# Altium schematic symbol library DBLib.SchLib: 36 symbols
Pins are listed as number, name and electrical type; pins without a type are passive.

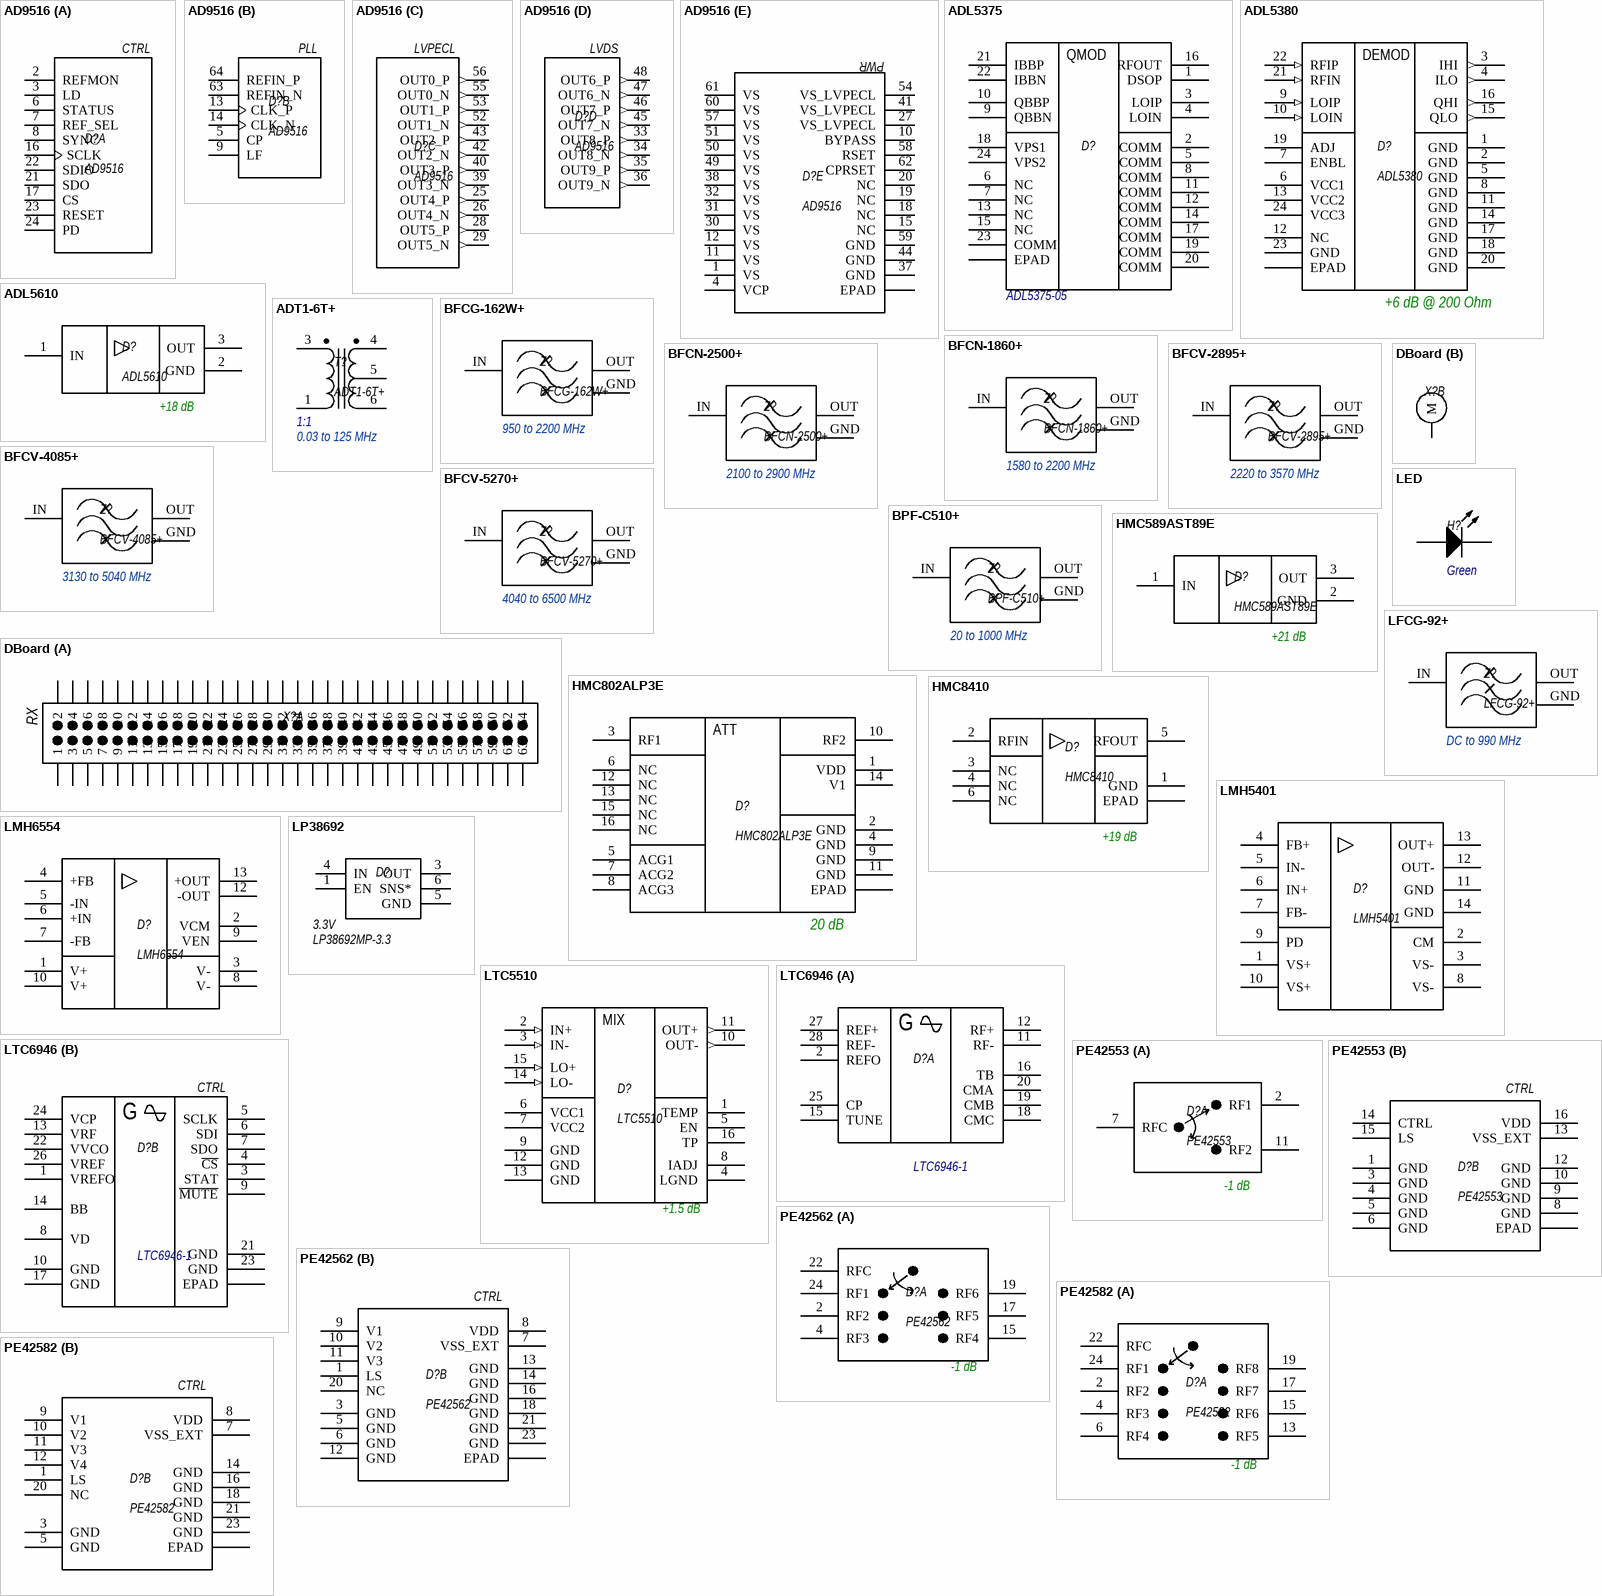
[diagram p0: symbols AD9516 to PE42582]

## AD9516
designator D?
14-Output Clock Generator; Manufacturer: Analog Devices; Input Frequency: 0 to 2.4 GHz; Input Sensitivity: 150 mV p-p; Name: AD9516-4; Output Frequency, Maximum: 2950 MHz; Voltage: 2.5 V to 3.3 V; P/N: AD9516-4BCPZ; Package: LFSCSP-64; Temperature Range: −40°C to +85°C; Type: 14-Output Clock Generator; Supplier 1: Digi-Key; Supplier Part Number 1: AD9516-4BCPZ-ND
footprint LFCSP-64
part A pins: 2 REFMON, 3 LD, 6 STATUS, 7 REF_SEL, 8 SYNC, 16 SCLK, 17 CS, 21 SDO, 22 SDIO, 23 RESET, 24 PD
part B pins: 5 CP, 9 LF, 13 CLK_P, 14 CLK_N, 63 REFIN_N, 64 REFIN_P
part C pins: 25 OUT4_P (out), 26 OUT4_N (out), 28 OUT5_P (out), 29 OUT5_N (out), 39 OUT3_N (out), 40 OUT3_P (out), 42 OUT2_N (out), 43 OUT2_P (out), 52 OUT1_N (out), 53 OUT1_P (out), 55 OUT0_N (out), 56 OUT0_P (out)
part D pins: 33 OUT8_P (out), 34 OUT8_N (out), 35 OUT9_P (out), 36 OUT9_N (out), 45 OUT7_N (out), 46 OUT7_P (out), 47 OUT6_N (out), 48 OUT6_P (out)
part E pins: 0 EPAD (power), 1 VS (power), 4 VCP (power), 10 BYPASS, 11 VS (power), 12 VS (power), 15 NC, 18 NC, 19 NC, 20 NC, 27 VS_LVPECL (power), 30 VS (power), 31 VS (power), 32 VS (power), 37 GND (power), 38 VS (power), 41 VS_LVPECL (power), 44 GND (power), 49 VS (power), 50 VS (power), 51 VS (power), 54 VS_LVPECL (power), 57 VS (power), 58 RSET, 59 GND (power), 60 VS (power), 61 VS (power), 62 CPRSET
part A text: CTRL
part B text: PLL
part C text: LVPECL
part D text: LVDS
part E text: PWR

## ADL5375
designator D?  Name: ADL5375-05  (hidden comment: ADL5375)
Broadband Quadrature Modulator; Manufacturer: Analog Devices; Voltage: 4.75 V to 5.25 V; P/N: ADL5375-05SCPZEPR7; Package: 24-lead LFCSP_VQ package; Temperature Range: –40°C to 125°C; Type: Broadband Quadrature Modulator; Supplier 1: Digi-Key; Supplier Part Number 1: ADL5375-05ACPZ-R7CT-ND
footprint LFCSP-24 (QFN, 24-Leads, Body 4,00x4,00mm, Pitch 0,50mm, Thermal Pad 2,50x2,50mm, IPC Medium Density)
pins: 1 DSOP, 2 COMM, 3 LOIP, 4 LOIN, 5 COMM, 6 NC, 7 NC, 8 COMM, 9 QBBN, 10 QBBP, 11 COMM, 12 COMM, 13 NC, 14 COMM, 15 NC, 16 RFOUT, 17 COMM, 18 VPS1, 19 COMM, 20 COMM, 21 IBBP, 22 IBBN, 23 COMM, 24 VPS2, 25 EPAD
text: QMOD

## ADL5380
designator D?
Quadrature Demodulator; Manufacturer: Analog Devices; Voltage: 5V; Type: Broadband quadrature I-Q demodulator; P/N: ADL5380ACPZ-R7; Name: ADL5380; Package: 24-Lead LFCSP_WQ; Temperature Range: –40°C to 125°C; Supplier 1: Digi-Key; Supplier Part Number 1: ADL5380ACPZ-R7CT-ND
footprint LFCSP-24 (QFN, 24-Leads, Body 4,00x4,00mm, Pitch 0,50mm, Thermal Pad 2,50x2,50mm, IPC Medium Density)
pins: 1 GND, 2 GND, 3 IHI (out), 4 ILO (out), 5 GND, 6 VCC1, 7 ENBL, 8 GND, 9 LOIP (in), 10 LOIN (in), 11 GND, 12 NC, 13 VCC2, 14 GND, 15 QLO (out), 16 QHI (out), 17 GND, 18 GND, 19 ADJ, 20 GND, 21 RFIN (in), 22 RFIP (in), 23 GND, 24 VCC3, 25 EPAD
text: DEMOD; +6 dB @ 200 Ohm

## ADL5610
designator D?
RF/IF Gain Block; Manufacturer: Analog Devices; P/N: ADL5610ARKZ-R7; Name: ADL5610; Package: SOT89; Type: RF/IF Gain Block; Supplier 1: Digi-Key; Supplier Part Number 1: ADL5610ARKZ-R7CT-ND
footprint SOT89 (SOT89, 3-Leads, Body 4,49x2,44mm, Pitch 1,50mm, Lead Span 4,0mm, IPC Medium Density)
pins: 1 IN, 2 GND, 3 OUT
text: +18 dB

## ADT1-6T+
designator T?  Frequency: 0.03 to 125 MHz  Ratio: 1:1
RF Transformer; Manufacturer: Mini-Circuits; Name: ADT1-6T+; P/N: ADT1-6T+; Type: RF Transformer; Package: CD637
footprint CD637 (RF Transformer)
pins: 1, 3, 4, 5, 6

## BFCG-162W+
designator Z?  Frequency: 950 to 2200 MHz
Bandpass Filter; Manufacturer: Mini-Circuits; Name: BFCG-162W+; P/N: BFCG-162W+; Type: Bandpass Filter; Package: GE0805C-3
footprint GE0805C-3 (Bandpass Filter)
pins: GND, IN, OUT

## BFCN-1860+
designator Z?  Frequency: 1580 to 2200 MHz
Bandpass Filter; Manufacturer: Mini-Circuits; Name: BFCN-1860+; P/N: BFCN-1860+; Type: Bandpass Filter; Package: FV1206-4
footprint FV1206-4 (Bandpass Filter)
pins: GND, IN, OUT

## BFCN-2500+
designator Z?  Frequency: 2100 to 2900 MHz
Bandpass Filter; Manufacturer: Mini-Circuits; Name: BFCN-2500+; P/N: BFCN-2500+; Type: Bandpass Filter; Package: FV1206-4
footprint FV1206-4 (Bandpass Filter)
pins: GND, IN, OUT

## BFCV-2895+
designator Z?  Frequency: 2220 to 3570 MHz
Bandpass Filter; Manufacturer: Mini-Circuits; Name: BFCV-2895+; P/N: BFCV-2895+; Type: Bandpass Filter; Package: JV1210C
footprint JV1210C (Bandpass Filter)
pins: GND, IN, OUT

## BFCV-4085+
designator Z?  Frequency: 3130 to 5040 MHz
Bandpass Filter; Manufacturer: Mini-Circuits; Name: BFCV-4085+; P/N: BFCV-4085+; Type: Bandpass Filter; Package: JV1210C
footprint JV1210C (Bandpass Filter)
pins: GND, IN, OUT

## BFCV-5270+
designator Z?  Frequency: 4040 to 6500 MHz
Bandpass Filter; Manufacturer: Mini-Circuits; Name: BFCV-5270+; P/N: BFCV-5270+; Type: Bandpass Filter; Package: JV1210C
footprint JV1210C (Bandpass Filter)
pins: GND, IN, OUT

## BPF-C510+
designator Z?  Frequency: 20 to 1000 MHz
Wide band filter; Manufacturer: Mini-Circuits; Name: BPF-C510+; P/N: BPF-C510+; Type: Bandpass Filter; Package: HU1186
footprint BPF-C510+ (Bandpass Filter)
pins: GND, IN, OUT

## DBoard
designator X?  (value not drawn)
USRP DBoard; Manufacturer: Molex; Name: 1.00mm Pitch Mezzanine 714390164; P/N: 714390164; Supplier 1: Digi-Key; Supplier Part Number 1: WM17201-ND
footprint DBoard (USRP DBoard)
part A pins: 65 1, 66 2, 67 3, 68 4, 69 5, 70 6, 71 7, 72 8, 73 9, 74 10, 75 11, 76 12, 77 13, 78 14, 79 15, 80 16, 81 17, 82 18, 83 19, 84 20, 85 21, 86 22, 87 23, 88 24, 89 25, 90 26, 91 27, 92 28, 93 29, 94 30, 95 31, 96 32, 97 33, 98 34, 99 35, 100 36, 101 37, 102 38, 103 39, 104 40, 105 41, 106 42, 107 43, 108 44, 109 45, 110 46, 111 47, 112 48, 113 49, 114 50, 115 51, 116 52, 117 53, 118 54, 119 55, 120 56, 121 57, 122 58, 123 59, 124 60, 125 61, 126 62, 127 63, 128 64
part B pins: 0 M
part A text: RX

## HMC589AST89E
designator D?
InGaP HBT GAIN BLOCK; Manufacturer: Analog Devices; Name: HMC589AST89E; Package: SOT89E; Type: InGaP HBT GAIN BLOCK; P/N: HMC589AST89E; Supplier 1: Digi-Key; Supplier Part Number 1: 1127-3329-1-ND
footprint SOT89 (SOT89, 3-Leads, Body 4,49x2,44mm, Pitch 1,50mm, Lead Span 4,0mm, IPC Medium Density)
pins: 1 IN, 2 GND, 3 OUT
text: +21 dB

## HMC802ALP3E
designator D?
POSITIVE CONTROL ATTENUATOR; Manufacturer: Analog Devices; Type: 20 dB GaAs MMIC 1-BIT DIGITAL; Name: HMC802ALP3E; Package: 16 Lead 3x3mm SMT; P/N: HMC802ALP3E; Supplier 1: Digi-Key; Supplier Part Number 1: 1127-3186-ND
footprint QFN-16 v2 (QFN, 16-Leads, Body 3,00x3,00mm, Pitch 0,50mm, Thermal Pad 1,73x1,73mm, IPC Medium Density)
pins: 1 VDD, 2 GND, 3 RF1, 4 GND, 5 ACG1, 6 NC, 7 ACG2, 8 ACG3, 9 GND, 10 RF2, 11 GND, 12 NC, 13 NC, 14 V1, 15 NC, 16 NC, 17 EPAD
text: ATT; 20 dB

## HMC8410
designator D?
Low Noise Amplifier; Manufacturer: Analog Devices; Type: LNA; P/N: HMC8410LP2FE; Name: HMC8410; Package: LFSCP 2x2 mm; Supplier 1: Digi-Key; Supplier Part Number 1: 1127-3353-ND
footprint LFCSP 2x2 mm (LFCSP, 6-Leads, Body 2,00x2,00mm, Pitch 0,65mm, Thermal Pad 1,60x0,99mm, IPC Medium Density)
pins: 1 GND, 2 RFIN, 3 NC, 4 NC, 5 RFOUT, 6 NC, 7 EPAD
text: +19 dB

## LED
designator H?  Color: Green  (hidden comment: LED)
CHIP LED LAMP; Manufacturer: Kingbright; Name: APHCM2012; P/N: APHCM2012CGCK-F01; Package: 2.0 x 1.25 mm SMD; Type: CHIP LED LAMP; Supplier 1: Digi-Key; Supplier Part Number 1: 754-1094-1-ND
footprint LED
pins: 1 K, 2 A

## LFCG-92+
designator Z?  Frequency: DC to 990 MHz
Low Pass Filter; Manufacturer: Mini-Circuits; Name: LFCG-92+; P/N: LFCG-92+; Type: Low Pass Filter; Package: GE0805C-2
footprint GE0805C-2 (Low Pass Filter)
pins: GND, IN, OUT

## LMH5401
designator D?
Fully Differential Amplifier; Manufacturer: Texas Instruments; Voltage: 3.15 V ~ 5.25 V; Type: The LMH5401 device is a very high-performance,  differential amplifier optimized for radio frequency  (RF); P/N: LMH5401IRMST; Name: LMH5401; Package: 14-UQFN (2.5x2.5); Temperature Range: –40°C to 125°C; Supplier 1: Digi-Key; Supplier Part Number 1: 296-38513-1-ND
footprint UQFN-14 (LMH5401)
pins: 1 VS+, 2 CM, 3 VS-, 4 FB+, 5 IN-, 6 IN+, 7 FB-, 8 VS-, 9 PD, 10 VS+, 11 GND, 12 OUT-, 13 OUT+, 14 GND

## LMH6554
designator D?
Fully Differential Amplifier; Manufacturer: Texas Instruments; Voltage: 5V; Type: The LMH6554 device is a high-performance fully differential amplifier; P/N: LMH6554LEE/NOPB; Name: LMH6554; Package: 14-lead UQFN; Temperature Range: –40°C to 125°C; Supplier 1: Digi-Key; Supplier Part Number 1: LMH6554LEE/NOPBCT-ND
footprint UQFN-14_2 (LMH6554)
pins: 1 V+, 2 VCM, 3 V-, 4 +FB, 5 -IN, 6 +IN, 7 -FB, 8 V-, 9 VEN, 10 V+, 12 -OUT, 13 +OUT

## LP38692
designator D?  Name: LP38692MP-3.3  Voltage: 3.3V  (hidden comment: LP38692)
Linear Regulator; Manufacturer: Texas Instruments; P/N: LP38692MP-3.3/NOPB; Supplier 1: Digi-Key; Supplier Part Number 1: LP38692MP-3.3/NOPBCT-ND; Type: Linear Regulator; Package: SOT-223-5
footprint SOT-223-5
pins: 1 EN, 3 OUT, 4 IN, 5 GND, 6 SNS*

## LTC5510
designator D?
Differential Amplifier/ADC   Driver; Manufacturer: Linear Technology; Voltage: 5V or 3.3V; Type: High Linearity Active Mixer; P/N: LTC5510IUF#PBF; Name: LTC5510; Package: 16-Lead (4mm × 4mm) QFN; Temperature Range: –40°C to 105°C; Supplier 1: Digi-Key; Supplier Part Number 1: LTC5510IUF#PBF-ND
footprint PQFN-16 (PQFN, 16-Leads, Body 4,00x4,00mm, Pitch 0,65mm, Thermal Pad 2,15x2,15mm, IPC Medium Density)
pins: 1 TEMP, 2 IN+ (in), 3 IN- (in), 4 LGND, 5 EN, 6 VCC1, 7 VCC2, 8 IADJ, 9 GND, 10 OUT- (out), 11 OUT+ (out), 12 GND, 13 GND, 14 LO- (in), 15 LO+ (in), 16 TP
text: MIX; +1.5 dB

## LTC6946
designator D?  Name: LTC6946-1  (hidden comment: LTC6946)
The LTC®6946 is a high performance, low noise, 6.39GHz  phase-locked loop (PLL); Manufacturer: Linear Technology; Voltage: 3.15 V ~ 5.25 V; Type: Clock/Frequency Synthesizer (RF/IF), Integer N; P/N: LTC6946IUFD-1#PBF; Package: 28-QFN (4x5); Temperature Range: -40°C ~ 105°C; Supplier 1: Digi-Key; Supplier Part Number 1: LTC6946IUFD-1#PBF-ND
footprint QFN-28 (QFN, 28-Leads, Body 4,00x5,00mm, Pitch 0,50mm, Thermal Pad 2,50x3,50mm, IPC Medium Density)
part A pins: 2 REFO, 11 RF-, 12 RF+, 15 TUNE, 16 TB, 18 CMC, 19 CMB, 20 CMA, 25 CP, 27 REF+, 28 REF-
part B pins: 1 VREFO, 3 STAT, 4 ~{CS}, 5 SCLK, 6 SDI, 7 SDO, 8 VD, 9 ~{MUTE}, 10 GND, 13 VRF, 14 BB, 17 GND, 21 GND, 22 VVCO, 23 GND, 24 VCP, 26 VREF, 29 EPAD
part A text: G
part B text: CTRL; G

## PE42553
designator D?
HaRPTM technology-enhanced absorptive SPDT; Manufacturer: Peregrine Technical Solutions; P/N: PE42553A-Z; Type: SPDT RF Switch; Name: PE42553; Package: 16-lead 3 × 3 mm QFN; Supplier 1: Digi-Key; Supplier Part Number 1: 1046-1137-1-ND
footprint QFN-16 (QFN, 16-Leads, Body 3,00x3,00mm, Pitch 0,50mm, Thermal Pad 1,70x1,70mm, IPC Medium Density)
part A pins: 2 RF1, 7 RFC, 11 RF2
part B pins: 1 GND, 3 GND, 4 GND, 5 GND, 6 GND, 8 GND, 9 GND, 10 GND, 12 GND, 13 VSS_EXT, 14 CTRL, 15 LS, 16 VDD, 17 EPAD
part A text: -1 dB

## PE42562
designator D?
The PE42582 is a HaRP™ technology-enhanced absorptive SP6T RF switch; Manufacturer: Peregrine Technical Solutions; P/N: PE42562A-X; Name: PE42562; Package: 24-lead 4 × 4 × 0.85 mm QFN; Type: Absorptive SP6T RF switch
footprint QFN-24 (QFN, 24-Leads, Body 4,00x4,00mm, Pitch 0,50mm, Thermal Pad 2,70x2,70mm, IPC Medium Density)
part A pins: 2 RF2, 4 RF3, 15 RF4, 17 RF5, 19 RF6, 22 RFC, 24 RF1
part B pins: 1 LS, 3 GND, 5 GND, 6 GND, 7 VSS_EXT, 8 VDD, 9 V1, 10 V2, 11 V3, 12 GND, 13 GND, 14 GND, 16 GND, 18 GND, 20 NC, 21 GND, 23 GND, 25 EPAD
part A text: -1 dB
part B text: CTRL

## PE42582
designator D?
The PE42582 is a HaRP™ technology-enhanced absorptive SP8T RF switch; Manufacturer: Peregrine Technical Solutions; P/N: PE42582A-X; Name: PE42582; Package: 24-lead 4 × 4 × 0.85 mm QFN; Type: Absorptive SP8T RF switch
footprint QFN-24 (QFN, 24-Leads, Body 4,00x4,00mm, Pitch 0,50mm, Thermal Pad 2,70x2,70mm, IPC Medium Density)
part A pins: 2 RF2, 4 RF3, 6 RF4, 13 RF5, 15 RF6, 17 RF7, 19 RF8, 22 RFC, 24 RF1
part B pins: 1 LS, 3 GND, 5 GND, 7 VSS_EXT, 8 VDD, 9 V1, 10 V2, 11 V3, 12 V4, 14 GND, 16 GND, 18 GND, 20 NC, 21 GND, 23 GND, 25 EPAD
part A text: -1 dB
part B text: CTRL

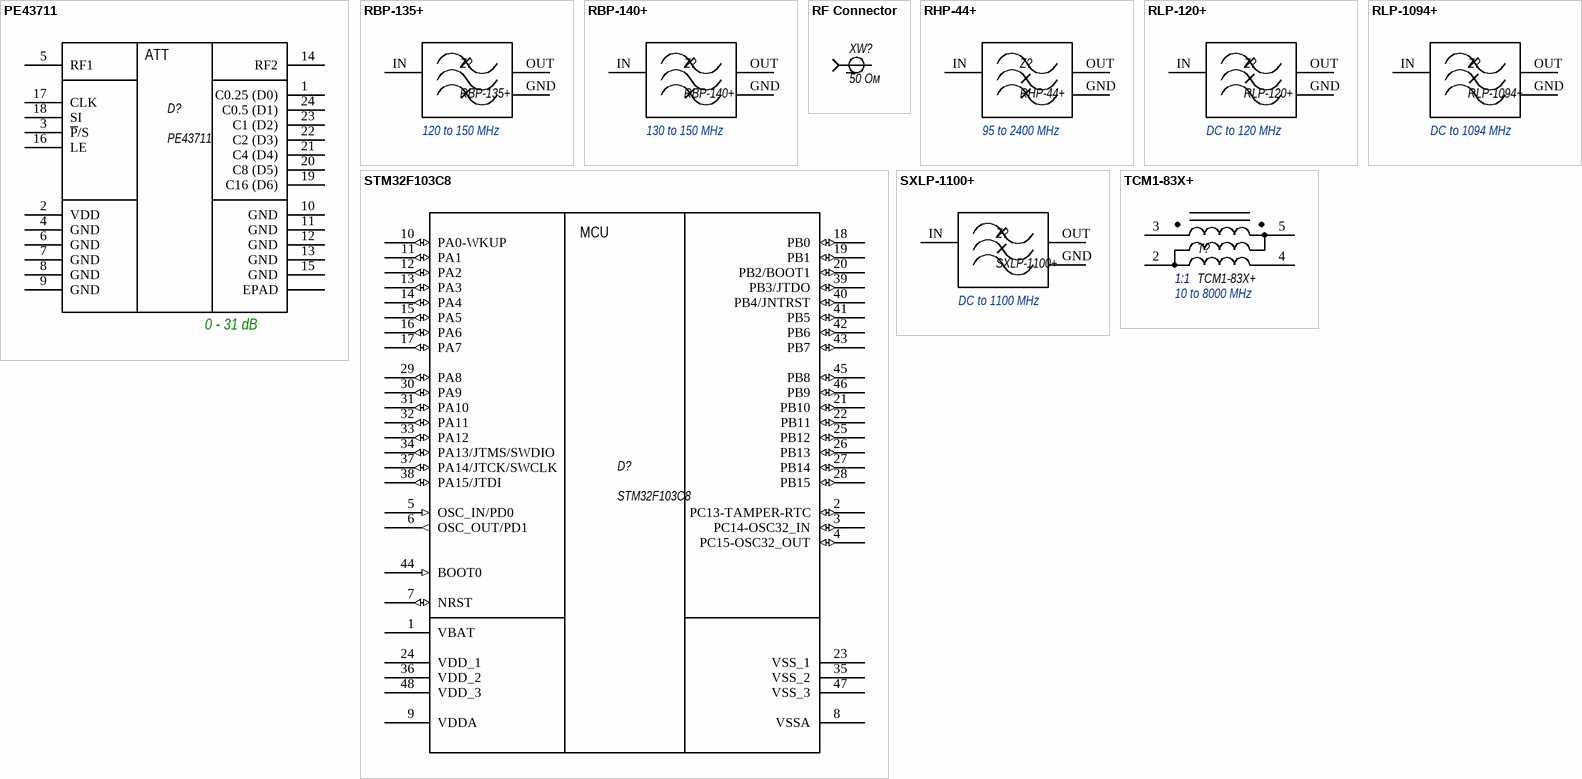
[diagram p1: symbols PE43711 to TCM1-83X+]

## PE43711
designator D?
The PE43711 is a 50Ω, HaRP™ technology-enhanced, 7-bit RF digital step attenuator; Manufacturer: Peregrine Technical Solutions; P/N: PE43711A-Z; Type: 7-bit RF digital step attenuator (DSA); Name: PE43711; Package: 24-lead 4 × 4 × 0.85 mm QFN; Supplier 1: Digi-Key; Supplier Part Number 1: 1046-1138-1-ND
footprint QFN-24 (QFN, 24-Leads, Body 4,00x4,00mm, Pitch 0,50mm, Thermal Pad 2,70x2,70mm, IPC Medium Density)
pins: 1 C0.25 (D0), 2 VDD, 3 ~{P}/S, 4 GND, 5 RF1, 6 GND, 7 GND, 8 GND, 9 GND, 10 GND, 11 GND, 12 GND, 13 GND, 14 RF2, 15 GND, 16 LE, 17 CLK, 18 SI, 19 C16 (D6), 20 C8 (D5), 21 C4 (D4), 22 C2 (D3), 23 C1 (D2), 24 C0.5 (D1), 25 EPAD
text: ATT; 0 - 31 dB

## RBP-135+
designator Z?  Frequency: 120 to 150 MHz
Bandpass Filter; Manufacturer: Mini-Circuits; Name: RBP-135+; P/N: RBP-135+; Type: Bandpass Filter; Package: GP731
footprint GP731 (Low Pass Filter)
pins: GND, IN, OUT

## RBP-140+
designator Z?  Frequency: 130 to 150 MHz
Bandpass Filter; Manufacturer: Mini-Circuits; Name: RBP-140+; P/N: RBP-140+; Type: Bandpass Filter; Package: GP731
footprint GP731 (Low Pass Filter)
pins: GND, IN, OUT

## RF Connector
designator XW?, comment 50 Ом
50 Ohms, SMA Jack, Vertica; Manufacturer: Molex; Impedance: 50Ω; P/N: 0732511352; Name: SMA Jack; Type: 50 Ohms, SMA Jack, Vertical, PCB SMT, Gold (Au) Body; Supplier 1: Digi-Key; Supplier Part Number 1: WM9458-ND
footprint MOLEX SD-73251-135 (Gold)
pins: G GND, S RF

## RHP-44+
designator Z?  Frequency: 95 to 2400 MHz
Low Pass Filter; Manufacturer: Mini-Circuits; Name: RHP-44+; P/N: RHP-44+; Type: High Pass Filter; Package: GP731
footprint GP731 (Low Pass Filter)
pins: GND, IN, OUT

## RLP-120+
designator Z?  Frequency: DC to 120 MHz
Low Pass Filter; Manufacturer: Mini-Circuits; Name: RLP-120+; P/N: RLP-120+; Type: Low Pass Filter; Package: GP731
footprint GP731 (Low Pass Filter)
pins: GND, IN, OUT

## RLP-1094+
designator Z?  Frequency: DC to 1094 MHz
Low Pass Filter; Manufacturer: Mini-Circuits; Name: RLP-1094+; P/N: RLP-1094+; Type: Low Pass Filter; Package: GP731
footprint GP731 (Low Pass Filter)
pins: GND, IN, OUT

## STM32F103C8
designator D?
Medium-density performance line ARM®-based 32-bit MCU; Manufacturer: STMicroelectronics; Type: ARM® 32-bit Cortex®-M3 CPU; P/N: STM32F103C8T6; Voltage: 2 V ~ 3.6 V; Package: 48-LQFP; Supplier 1: Digi-Key; Supplier Part Number 1: 497-6063-ND
footprint LQFP-48N (TSQFP, 48-Leads, Body 7,00x7,00mm, Pitch 0,50mm, IPC Medium Density)
pins: 1 VBAT (power), 2 PC13-TAMPER-RTC (io), 3 PC14-OSC32_IN (io), 4 PC15-OSC32_OUT (io), 5 OSC_IN/PD0 (in), 6 OSC_OUT/PD1 (out), 7 NRST (io), 8 VSSA (power), 9 VDDA (power), 10 PA0-WKUP (io), 11 PA1 (io), 12 PA2 (io), 13 PA3 (io), 14 PA4 (io), 15 PA5 (io), 16 PA6 (io), 17 PA7 (io), 18 PB0 (io), 19 PB1 (io), 20 PB2/BOOT1 (io), 21 PB10 (io), 22 PB11 (io), 23 VSS_1 (power), 24 VDD_1 (power), 25 PB12 (io), 26 PB13 (io), 27 PB14 (io), 28 PB15 (io), 29 PA8 (io), 30 PA9 (io), 31 PA10 (io), 32 PA11 (io), 33 PA12 (io), 34 PA13/JTMS/SWDIO (io), 35 VSS_2 (power), 36 VDD_2 (power), 37 PA14/JTCK/SWCLK (io), 38 PA15/JTDI (io), 39 PB3/JTDO (io), 40 PB4/JNTRST (io), 41 PB5 (io), 42 PB6 (io), 43 PB7 (io), 44 BOOT0 (in), 45 PB8 (io), 46 PB9 (io), 47 VSS_3 (power), 48 VDD_3 (power)
text: MCU

## SXLP-1100+
designator Z?  Frequency: DC to 1100 MHz
Low Pass Filter; Manufacturer: Mini-Circuits; Name: SXLP-1100+; P/N: SXLP-1100+; Type: Low Pass Filter; Package: HF1139
footprint HF1139 (Low Pass Filter)
pins: GND, IN, OUT

## TCM1-83X+
designator T?  Frequency: 10 to 8000 MHz  Ratio: 1:1
RF Transformer; Manufacturer: Mini-Circuits; Name: TCM1-83X+; P/N: TCM1-83X+; Type: RF Transformer; Package: DB1627
footprint DB1627 (RF Transformer)
pins: 2, 3, 4, 5